# EAGLE library part ISL84781 (library Public)
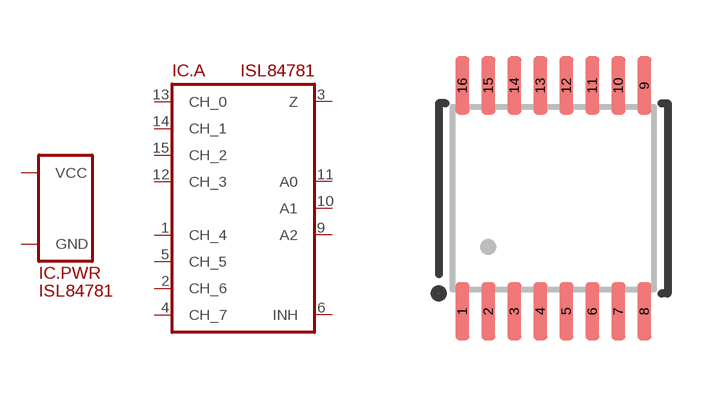
[diagram p145: symbol with the pads of TSSOP16; footprint TSSOP16]

Designator prefix IC; gates .PWR=SUPPLY_VCC/GND .A=ISL84781

## ISL84781  [TSSOP16]
1  .A:CH_4
2  .A:CH_6
3  .A:Z
4  .A:CH_7
5  .A:CH_5
6  .A:INH
8  .PWR:GND
9  .A:A2
10  .A:A1
11  .A:A0
12  .A:CH_3
13  .A:CH_0
14  .A:CH_1
15  .A:CH_2
16  .PWR:VCC

## Footprint TSSOP16 (pad centres in mm)
smd 0.35 x 1.45: 1 -2.275,-2.825; 2 -1.625,-2.825; 3 -0.975,-2.825; 4 -0.325,-2.825; 5 0.325,-2.825; 6 0.975,-2.825; 7 1.625,-2.825; 8 2.275,-2.825; 9 2.275,2.825; 10 1.625,2.825; 11 0.975,2.825; 12 0.325,2.825; 13 -0.325,2.825; 14 -0.975,2.825; 15 -1.625,2.825; 16 -2.275,2.825